# EAGLE library part EP1S10_STRATIX_BGA672 (library altera)
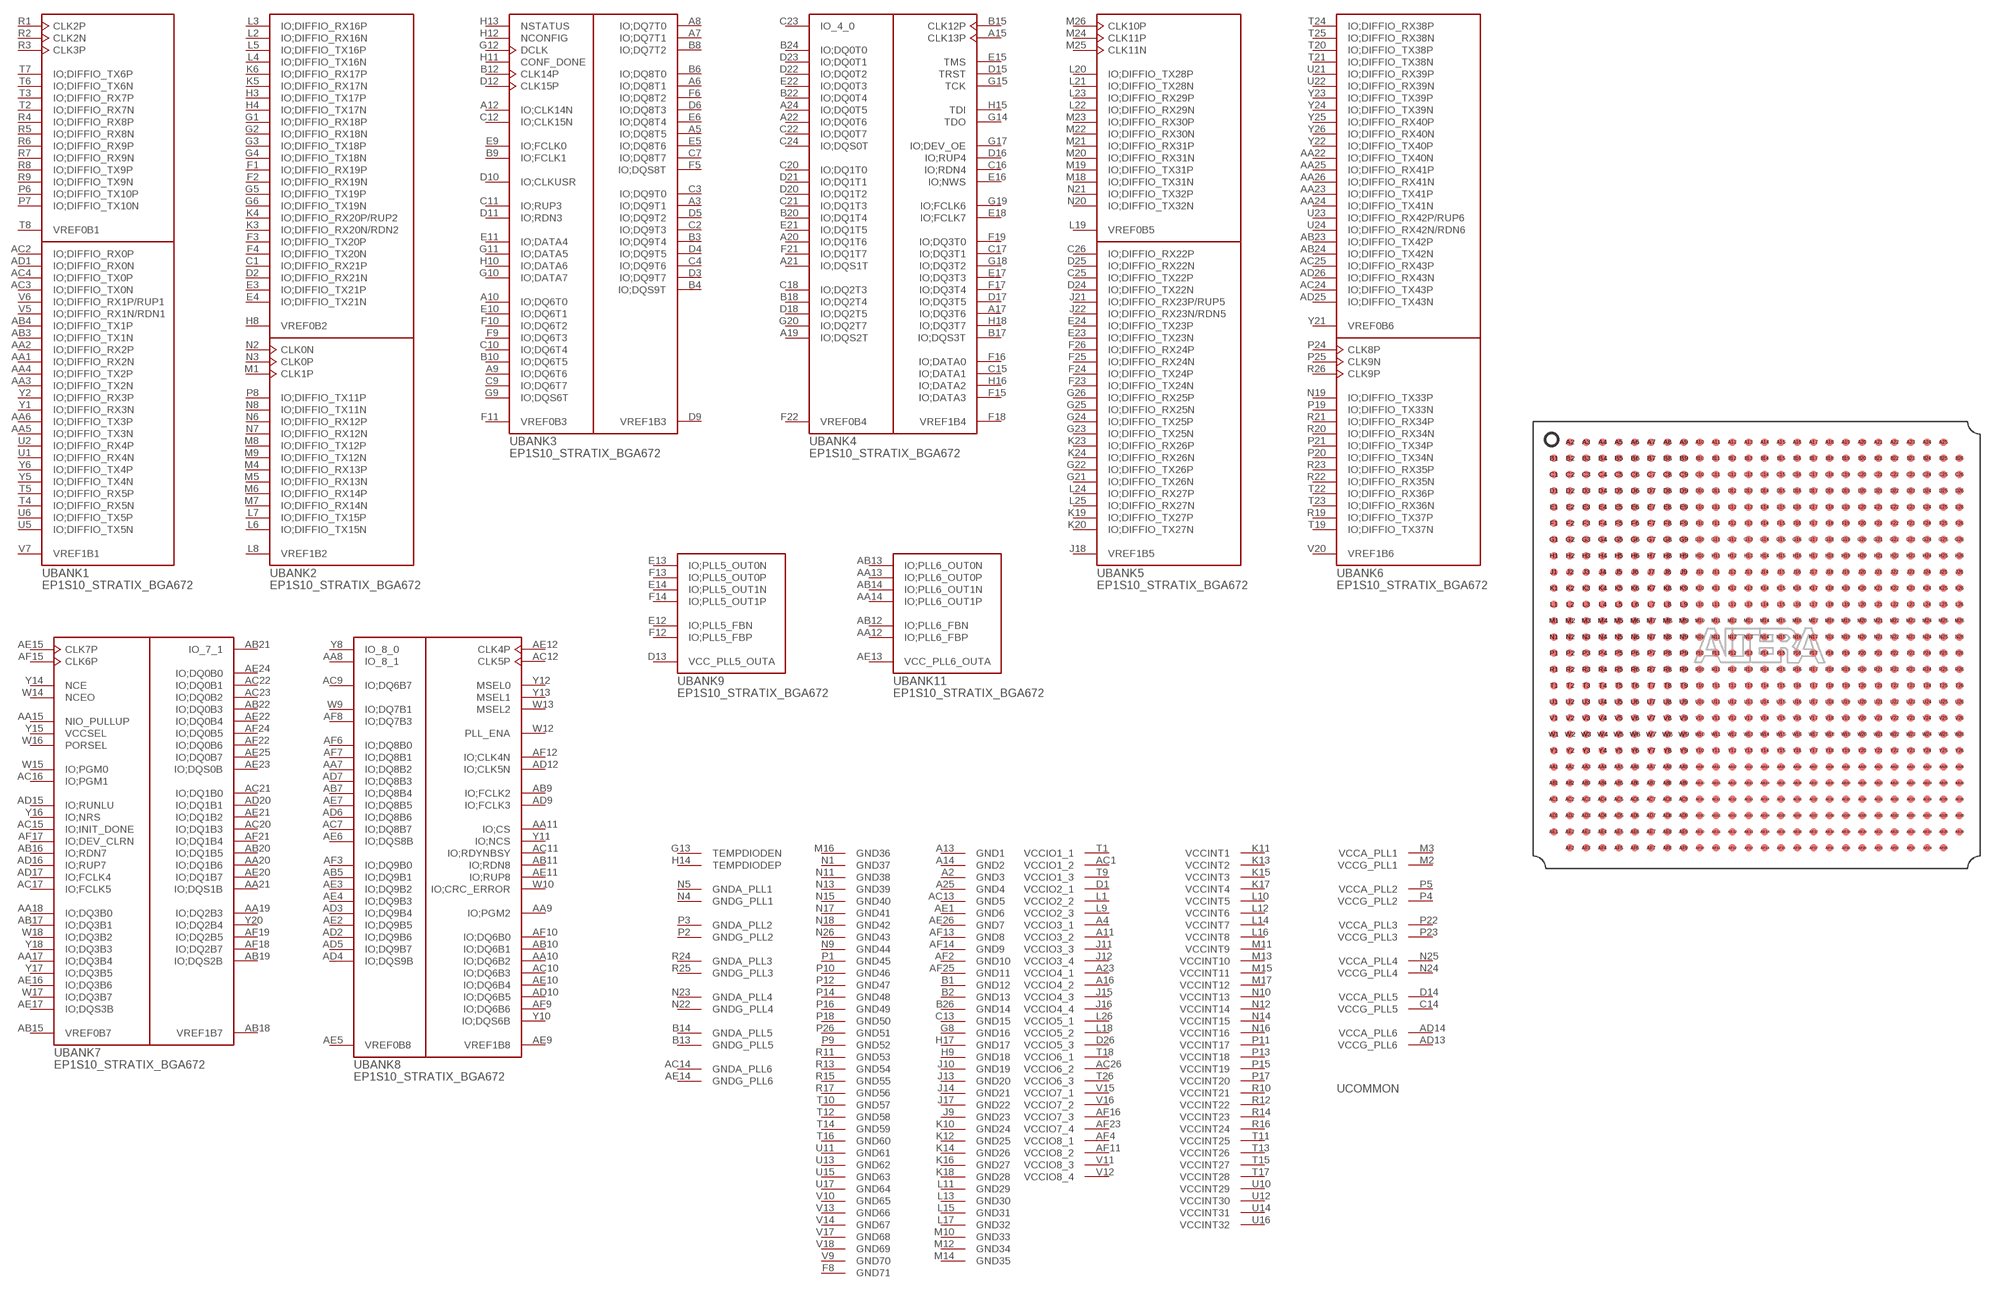
[diagram p64: symbol with the pads of BGA672; footprint BGA672]

Designator prefix -; gates COMMON=EP1S10_BGA672_0 BANK1=EP1S10_BGA672_1 BANK2=EP1S10_BGA672_2 BANK3=EP1S10_BGA672_3 BANK4=EP1S10_BGA672_4 BANK5=EP1S10_BGA672_5 BANK6=EP1S10_BGA672_6 BANK7=EP1S10_BGA672_7 BANK8=EP1S10_BGA672_8 BANK9=EP1S10_FBGA484_9 BANK11=EP1S10_FBGA484_11 NC=EP1S10_BGA672_NC

## EP1S10_STRATIX_BGA672  [BGA672]
A2  COMMON:GND3  pwr
A3  BANK3:IO;DQ9T1
A4  COMMON:VCCIO3_1  pwr
A5  BANK3:IO;DQ8T5
A6  BANK3:IO;DQ8T1
A7  BANK3:IO;DQ7T1
A8  BANK3:IO;DQ7T0
A9  BANK3:IO;DQ6T6
A10  BANK3:IO;DQ6T0
A11  COMMON:VCCIO3_2  pwr
A12  BANK3:IO;CLK14N
A13  COMMON:GND1  pwr
A14  COMMON:GND2  pwr
A15  BANK4:CLK13P  in
A16  COMMON:VCCIO4_2  pwr
A17  BANK4:IO;DQ3T6
A18  NC:P$1  nc
A19  BANK4:IO;DQS2T
A20  BANK4:IO;DQ1T6
A21  BANK4:IO;DQS1T
A22  BANK4:IO;DQ0T6
A23  COMMON:VCCIO4_1  pwr
A24  BANK4:IO;DQ0T5
A25  COMMON:GND4  pwr
AA1  BANK1:IO;DIFFIO_RX2N
AA2  BANK1:IO;DIFFIO_RX2P
AA3  BANK1:IO;DIFFIO_TX2N
AA4  BANK1:IO;DIFFIO_TX2P
AA5  BANK1:IO;DIFFIO_TX3N
AA6  BANK1:IO;DIFFIO_TX3P
AA7  BANK8:IO;DQ8B2
AA8  BANK8:IO_8_1
AA9  BANK8:IO;PGM2
AA10  BANK8:IO;DQ6B2
AA11  BANK8:IO;CS
AA12  BANK11:IO;PLL6_FBP
AA13  BANK11:IO;PLL6_OUT0P
AA14  BANK11:IO;PLL6_OUT1P
AA15  BANK7:NIO_PULLUP  in
AA16  NC:P$2  nc
AA17  BANK7:IO;DQ3B4
AA18  BANK7:IO;DQ3B0
AA19  BANK7:IO;DQ2B3
AA20  BANK7:IO;DQ1B6
AA21  BANK7:IO;DQS1B
AA22  BANK6:IO;DIFFIO_TX40N
AA23  BANK6:IO;DIFFIO_TX41P
AA24  BANK6:IO;DIFFIO_TX41N
AA25  BANK6:IO;DIFFIO_RX41P
AA26  BANK6:IO;DIFFIO_RX41N
AB1  NC:P$3  nc
AB2  NC:P$4  nc
AB3  BANK1:IO;DIFFIO_TX1N
AB4  BANK1:IO;DIFFIO_TX1P
AB5  BANK8:IO;DQ9B1
AB6  NC:P$7  nc
AB7  BANK8:IO;DQ8B4
AB8  NC:P$8  nc
AB9  BANK8:IO;FCLK2
AB10  BANK8:IO;DQ6B1
AB11  BANK8:IO;RDN8
AB12  BANK11:IO;PLL6_FBN
AB13  BANK11:IO;PLL6_OUT0N
AB14  BANK11:IO;PLL6_OUT1N
AB15  BANK7:VREF0B7  pwr
AB16  BANK7:IO;RDN7
AB17  BANK7:IO;DQ3B1
AB18  BANK7:VREF1B7  pwr
AB19  BANK7:IO;DQS2B
AB20  BANK7:IO;DQ1B5
AB21  BANK7:IO_7_1
AB22  BANK7:IO;DQ0B3
AB23  BANK6:IO;DIFFIO_TX42P
AB24  BANK6:IO;DIFFIO_TX42N
AB25  NC:P$5  nc
AB26  NC:P$6  nc
AC1  COMMON:VCCIO1_2  pwr
AC2  BANK1:IO;DIFFIO_RX0P
AC3  BANK1:IO;DIFFIO_TX0N
AC4  BANK1:IO;DIFFIO_TX0P
AC5  NC:P$11  nc
AC6  NC:P$12  nc
AC7  BANK8:IO;DQ8B7
AC8  NC:P$13  nc
AC9  BANK8:IO;DQ6B7
AC10  BANK8:IO;DQ6B3
AC11  BANK8:IO;RDYNBSY
AC12  BANK8:CLK5P  in
AC13  COMMON:GND5  pwr
AC14  COMMON:GNDA_PLL6  pwr
AC15  BANK7:IO;INIT_DONE
AC16  BANK7:IO;PGM1
AC17  BANK7:IO;FCLK5
AC18  NC:P$9  nc
AC19  NC:P$10  nc
AC20  BANK7:IO;DQ1B3
AC21  BANK7:IO;DQ1B0
AC22  BANK7:IO;DQ0B1
AC23  BANK7:IO;DQ0B2
AC24  BANK6:IO;DIFFIO_TX43P
AC25  BANK6:IO;DIFFIO_RX43P
AC26  COMMON:VCCIO6_2  pwr
AD1  BANK1:IO;DIFFIO_RX0N
AD2  BANK8:IO;DQ9B6
AD3  BANK8:IO;DQ9B4
AD4  BANK8:IO;DQS9B
AD5  BANK8:IO;DQ9B7
AD6  BANK8:IO;DQ8B6
AD7  BANK8:IO;DQ8B3
AD8  NC:P$21  nc
AD9  BANK8:IO;FCLK3
AD10  BANK8:IO;DQ6B5
AD11  NC:P$14  nc
AD12  BANK8:IO;CLK5N
AD13  COMMON:VCCG_PLL6  pwr
AD14  COMMON:VCCA_PLL6  pwr
AD15  BANK7:IO;RUNLU
AD16  BANK7:IO;RUP7
AD17  BANK7:IO;FCLK4
AD18  NC:P$15  nc
AD19  NC:P$16  nc
AD20  BANK7:IO;DQ1B1
AD21  NC:P$17  nc
AD22  NC:P$18  nc
AD23  NC:P$19  nc
AD24  NC:P$20  nc
AD25  BANK6:IO;DIFFIO_TX43N
AD26  BANK6:IO;DIFFIO_RX43N
AE1  COMMON:GND6  pwr
AE2  BANK8:IO;DQ9B5
AE3  BANK8:IO;DQ9B2
AE4  BANK8:IO;DQ9B3
AE5  BANK8:VREF0B8  pwr
AE6  BANK8:IO;DQS8B
AE7  BANK8:IO;DQ8B5
AE8  NC:P$24  nc
AE9  BANK8:VREF1B8  pwr
AE10  BANK8:IO;DQ6B4
AE11  BANK8:IO;RUP8
AE12  BANK8:CLK4P  in
AE13  BANK11:VCC_PLL6_OUTA  pwr
AE14  COMMON:GNDG_PLL6  pwr
AE15  BANK7:CLK7P  in
AE16  BANK7:IO;DQ3B6
AE17  BANK7:IO;DQS3B
AE18  NC:P$22  nc
AE19  NC:P$23  nc
AE20  BANK7:IO;DQ1B7
AE21  BANK7:IO;DQ1B2
AE22  BANK7:IO;DQ0B4
AE23  BANK7:IO;DQS0B
AE24  BANK7:IO;DQ0B0
AE25  BANK7:IO;DQ0B7
AE26  COMMON:GND7  pwr
AF2  COMMON:GND10  pwr
AF3  BANK8:IO;DQ9B0
AF4  COMMON:VCCIO8_1  pwr
AF5  NC:P$26  nc
AF6  BANK8:IO;DQ8B0
AF7  BANK8:IO;DQ8B1
AF8  BANK8:IO;DQ7B3
AF9  BANK8:IO;DQ6B6
AF10  BANK8:IO;DQ6B0
AF11  COMMON:VCCIO8_2  pwr
AF12  BANK8:IO;CLK4N
AF13  COMMON:GND8  pwr
AF14  COMMON:GND9  pwr
AF15  BANK7:CLK6P  in
AF16  COMMON:VCCIO7_3  pwr
AF17  BANK7:IO;DEV_CLRN
AF18  BANK7:IO;DQ2B7
AF19  BANK7:IO;DQ2B5
AF20  NC:P$25  nc
AF21  BANK7:IO;DQ1B4
AF22  BANK7:IO;DQ0B6
AF23  COMMON:VCCIO7_4  pwr
AF24  BANK7:IO;DQ0B5
AF25  COMMON:GND11  pwr
B1  COMMON:GND12  pwr
B2  COMMON:GND13  pwr
B3  BANK3:IO;DQ9T4
B4  BANK3:IO;DQS9T
B5  NC:P$33  nc
B6  BANK3:IO;DQ8T0
B7  NC:P$34  nc
B8  BANK3:IO;DQ7T2
B9  BANK3:IO;FCLK1
B10  BANK3:IO;DQ6T5
B11  NC:P$27  nc
B12  BANK3:CLK14P  in
B13  COMMON:GNDG_PLL5  pwr
B14  COMMON:GNDA_PLL5  pwr
B15  BANK4:CLK12P  in
B16  NC:P$28  nc
B17  BANK4:IO;DQS3T
B18  BANK4:IO;DQ2T4
B19  NC:P$29  nc
B20  BANK4:IO;DQ1T4
B21  NC:P$30  nc
B22  BANK4:IO;DQ0T4
B23  NC:P$31  nc
B24  BANK4:IO;DQ0T0
B25  NC:P$32  nc
B26  COMMON:GND14  pwr
C1  BANK2:IO;DIFFIO_RX21P
C2  BANK3:IO;DQ9T3
C3  BANK3:IO;DQ9T0
C4  BANK3:IO;DQ9T6
C5  NC:P$36  nc
C6  NC:P$37  nc
C7  BANK3:IO;DQ8T7
C8  NC:P$38  nc
C9  BANK3:IO;DQ6T7
C10  BANK3:IO;DQ6T4
C11  BANK3:IO;RUP3
C12  BANK3:IO;CLK15N
C13  COMMON:GND15  pwr
C14  COMMON:VCCG_PLL5  pwr
C15  BANK4:IO;DATA1
C16  BANK4:IO;RDN4
C17  BANK4:IO;DQ3T1
C18  BANK4:IO;DQ2T3
C19  NC:P$35  nc
C20  BANK4:IO;DQ1T0
C21  BANK4:IO;DQ1T3
C22  BANK4:IO;DQ0T7
C23  BANK4:IO_4_0
C24  BANK4:IO;DQS0T
C25  BANK5:IO;DIFFIO_TX22P
C26  BANK5:IO;DIFFIO_RX22P
D1  COMMON:VCCIO2_1  pwr
D2  BANK2:IO;DIFFIO_RX21N
D3  BANK3:IO;DQ9T7
D4  BANK3:IO;DQ9T5
D5  BANK3:IO;DQ9T2
D6  BANK3:IO;DQ8T3
D7  NC:P$40  nc
D8  NC:P$41  nc
D9  BANK3:VREF1B3  pwr
D10  BANK3:IO;CLKUSR
D11  BANK3:IO;RDN3
D12  BANK3:CLK15P  in
D13  BANK9:VCC_PLL5_OUTA  pwr
D14  COMMON:VCCA_PLL5  pwr
D15  BANK4:TRST  in
D16  BANK4:IO;RUP4
D17  BANK4:IO;DQ3T5
D18  BANK4:IO;DQ2T5
D19  NC:P$39  nc
D20  BANK4:IO;DQ1T2
D21  BANK4:IO;DQ1T1
D22  BANK4:IO;DQ0T2
D23  BANK4:IO;DQ0T1
D24  BANK5:IO;DIFFIO_TX22N
D25  BANK5:IO;DIFFIO_RX22N
D26  COMMON:VCCIO5_3  pwr
E1  NC:P$42  nc
E2  NC:P$44  nc
E3  BANK2:IO;DIFFIO_TX21P
E4  BANK2:IO;DIFFIO_TX21N
E5  BANK3:IO;DQ8T6
E6  BANK3:IO;DQ8T4
E7  NC:P$48  nc
E8  NC:P$49  nc
E9  BANK3:IO;FCLK0
E10  BANK3:IO;DQ6T1
E11  BANK3:IO;DATA4
E12  BANK9:IO;PLL5_FBN
E13  BANK9:IO;PLL5_OUT0N
E14  BANK9:IO;PLL5_OUT1N
E15  BANK4:TMS  in
E16  BANK4:IO;NWS
E17  BANK4:IO;DQ3T3
E18  BANK4:IO;FCLK7
E19  NC:P$43  nc
E20  NC:P$45  nc
E21  BANK4:IO;DQ1T5
E22  BANK4:IO;DQ0T3
E23  BANK5:IO;DIFFIO_TX23N
E24  BANK5:IO;DIFFIO_TX23P
E25  NC:P$46  nc
E26  NC:P$47  nc
F1  BANK2:IO;DIFFIO_RX19P
F2  BANK2:IO;DIFFIO_RX19N
F3  BANK2:IO;DIFFIO_TX20P
F4  BANK2:IO;DIFFIO_TX20N
F5  BANK3:IO;DQS8T
F6  BANK3:IO;DQ8T2
F7  NC:P$51  nc
F8  COMMON:GND71  pwr
F9  BANK3:IO;DQ6T3
F10  BANK3:IO;DQ6T2
F11  BANK3:VREF0B3  pwr
F12  BANK9:IO;PLL5_FBP
F13  BANK9:IO;PLL5_OUT0P
F14  BANK9:IO;PLL5_OUT1P
F15  BANK4:IO;DATA3
F16  BANK4:IO;DATA0
F17  BANK4:IO;DQ3T4
F18  BANK4:VREF1B4  pwr
F19  BANK4:IO;DQ3T0
F20  NC:P$50  nc
F21  BANK4:IO;DQ1T7
F22  BANK4:VREF0B4  pwr
F23  BANK5:IO;DIFFIO_TX24N
F24  BANK5:IO;DIFFIO_TX24P
F25  BANK5:IO;DIFFIO_RX24N
F26  BANK5:IO;DIFFIO_RX24P
G1  BANK2:IO;DIFFIO_RX18P
G2  BANK2:IO;DIFFIO_RX18N
G3  BANK2:IO;DIFFIO_TX18P
G4  BANK2:IO;DIFFIO_TX18N
G5  BANK2:IO;DIFFIO_TX19P
G6  BANK2:IO;DIFFIO_TX19N
G7  NC:P$53  nc
G8  COMMON:GND16  pwr
G9  BANK3:IO;DQS6T
G10  BANK3:IO;DATA7
G11  BANK3:IO;DATA5
G12  BANK3:DCLK  in
G13  COMMON:TEMPDIODEN  in
G14  BANK4:TDO  out
G15  BANK4:TCK  in
G16  NC:P$52  nc
G17  BANK4:IO;DEV_OE
G18  BANK4:IO;DQ3T2
G19  BANK4:IO;FCLK6
G20  BANK4:IO;DQ2T7
G21  BANK5:IO;DIFFIO_TX26N
G22  BANK5:IO;DIFFIO_TX26P
G23  BANK5:IO;DIFFIO_TX25N
G24  BANK5:IO;DIFFIO_TX25P
G25  BANK5:IO;DIFFIO_RX25N
G26  BANK5:IO;DIFFIO_RX25P
H1  NC:P$54  nc
H2  NC:P$56  nc
H3  BANK2:IO;DIFFIO_TX17P
H4  BANK2:IO;DIFFIO_TX17N
H5  NC:P$64  nc
H6  NC:P$65  nc
H7  NC:P$66  nc
H8  BANK2:VREF0B2  pwr
H9  COMMON:GND18  pwr
H10  BANK3:IO;DATA6
H11  BANK3:CONF_DONE  oc
H12  BANK3:NCONFIG  in
H13  BANK3:NSTATUS  oc
H14  COMMON:TEMPDIODEP  in
H15  BANK4:TDI  in
H16  BANK4:IO;DATA2
H17  COMMON:GND17  pwr
H18  BANK4:IO;DQ3T7
H19  NC:P$55  nc
H20  NC:P$57  nc
H21  NC:P$58  nc
H22  NC:P$59  nc
H23  NC:P$60  nc
H24  NC:P$61  nc
H25  NC:P$62  nc
H26  NC:P$63  nc
J1  NC:P$67  nc
J2  NC:P$69  nc
J3  NC:P$75  nc
J4  NC:P$76  nc
J5  NC:P$77  nc
J6  NC:P$78  nc
J7  NC:P$79  nc
J8  NC:P$80  nc
J9  COMMON:GND23  pwr
J10  COMMON:GND19  pwr
J11  COMMON:VCCIO3_3  pwr
J12  COMMON:VCCIO3_4  pwr
J13  COMMON:GND20  pwr
J14  COMMON:GND21  pwr
J15  COMMON:VCCIO4_3  pwr
J16  COMMON:VCCIO4_4  pwr
J17  COMMON:GND22  pwr
J18  BANK5:VREF1B5  pwr
J19  NC:P$68  nc
J20  NC:P$70  nc
J21  BANK5:IO;DIFFIO_RX23P/RUP5
J22  BANK5:IO;DIFFIO_RX23N/RDN5
J23  NC:P$71  nc
J24  NC:P$72  nc
J25  NC:P$73  nc
J26  NC:P$74  nc
K1  NC:P$81  nc
K2  NC:P$82  nc
K3  BANK2:IO;DIFFIO_RX20N/RDN2
K4  BANK2:IO;DIFFIO_RX20P/RUP2
K5  BANK2:IO;DIFFIO_RX17N
K6  BANK2:IO;DIFFIO_RX17P
K7  NC:P$87  nc
K8  NC:P$88  nc
K9  NC:P$89  nc
K10  COMMON:GND24  pwr
K11  COMMON:VCCINT1  pwr
K12  COMMON:GND25  pwr
K13  COMMON:VCCINT2  pwr
K14  COMMON:GND26  pwr
K15  COMMON:VCCINT3  pwr
K16  COMMON:GND27  pwr
K17  COMMON:VCCINT4  pwr
K18  COMMON:GND28  pwr
K19  BANK5:IO;DIFFIO_TX27P
K20  BANK5:IO;DIFFIO_TX27N
K21  NC:P$83  nc
K22  NC:P$84  nc
K23  BANK5:IO;DIFFIO_RX26P
K24  BANK5:IO;DIFFIO_RX26N
K25  NC:P$85  nc
K26  NC:P$86  nc
L1  COMMON:VCCIO2_2  pwr
L2  BANK2:IO;DIFFIO_RX16N
L3  BANK2:IO;DIFFIO_RX16P
L4  BANK2:IO;DIFFIO_TX16N
L5  BANK2:IO;DIFFIO_TX16P
L6  BANK2:IO;DIFFIO_TX15N
L7  BANK2:IO;DIFFIO_TX15P
L8  BANK2:VREF1B2  pwr
L9  COMMON:VCCIO2_3  pwr
L10  COMMON:VCCINT5  pwr
L11  COMMON:GND29  pwr
L12  COMMON:VCCINT6  pwr
L13  COMMON:GND30  pwr
L14  COMMON:VCCINT7  pwr
L15  COMMON:GND31  pwr
L16  COMMON:VCCINT8  pwr
L17  COMMON:GND32  pwr
L18  COMMON:VCCIO5_2  pwr
L19  BANK5:VREF0B5  pwr
L20  BANK5:IO;DIFFIO_TX28P
L21  BANK5:IO;DIFFIO_TX28N
L22  BANK5:IO;DIFFIO_RX29N
L23  BANK5:IO;DIFFIO_RX29P
L24  BANK5:IO;DIFFIO_RX27P
L25  BANK5:IO;DIFFIO_RX27N
L26  COMMON:VCCIO5_1  pwr
M1  BANK2:CLK1P  in
M2  COMMON:VCCG_PLL1  pwr
M3  COMMON:VCCA_PLL1  pwr
M4  BANK2:IO;DIFFIO_RX13P
M5  BANK2:IO;DIFFIO_RX13N
M6  BANK2:IO;DIFFIO_RX14P
M7  BANK2:IO;DIFFIO_RX14N
M8  BANK2:IO;DIFFIO_TX12P
M9  BANK2:IO;DIFFIO_TX12N
M10  COMMON:GND33  pwr
M11  COMMON:VCCINT9  pwr
M12  COMMON:GND34  pwr
M13  COMMON:VCCINT10  pwr
M14  COMMON:GND35  pwr
M15  COMMON:VCCINT11  pwr
M16  COMMON:GND36  pwr
M17  COMMON:VCCINT12  pwr
M18  BANK5:IO;DIFFIO_TX31N
M19  BANK5:IO;DIFFIO_TX31P
M20  BANK5:IO;DIFFIO_RX31N
M21  BANK5:IO;DIFFIO_RX31P
M22  BANK5:IO;DIFFIO_RX30N
M23  BANK5:IO;DIFFIO_RX30P
M24  BANK5:CLK11P  in
M25  BANK5:CLK11N
M26  BANK5:CLK10P  in
N1  COMMON:GND37  pwr
N2  BANK2:CLK0N
N3  BANK2:CLK0P  in
N4  COMMON:GNDG_PLL1  pwr
N5  COMMON:GNDA_PLL1  pwr
N6  BANK2:IO;DIFFIO_RX12P
N7  BANK2:IO;DIFFIO_RX12N
N8  BANK2:IO;DIFFIO_TX11N
N9  COMMON:GND44  pwr
N10  COMMON:VCCINT13  pwr
N11  COMMON:GND38  pwr
N12  COMMON:VCCINT14  pwr
N13  COMMON:GND39  pwr
N14  COMMON:VCCINT15  pwr
N15  COMMON:GND40  pwr
N16  COMMON:VCCINT16  pwr
N17  COMMON:GND41  pwr
N18  COMMON:GND42  pwr
N19  BANK6:IO;DIFFIO_TX33P
N20  BANK5:IO;DIFFIO_TX32N
N21  BANK5:IO;DIFFIO_TX32P
N22  COMMON:GNDG_PLL4  pwr
N23  COMMON:GNDA_PLL4  pwr
N24  COMMON:VCCG_PLL4  pwr
N25  COMMON:VCCA_PLL4  pwr
N26  COMMON:GND43  pwr
P1  COMMON:GND45  pwr
P2  COMMON:GNDG_PLL2  pwr
P3  COMMON:GNDA_PLL2  pwr
P4  COMMON:VCCG_PLL2  pwr
P5  COMMON:VCCA_PLL2  pwr
P6  BANK1:IO;DIFFIO_TX10P
P7  BANK1:IO;DIFFIO_TX10N
P8  BANK2:IO;DIFFIO_TX11P
P9  COMMON:GND52  pwr
P10  COMMON:GND46  pwr
P11  COMMON:VCCINT17  pwr
P12  COMMON:GND47  pwr
P13  COMMON:VCCINT18  pwr
P14  COMMON:GND48  pwr
P15  COMMON:VCCINT19  pwr
P16  COMMON:GND49  pwr
P17  COMMON:VCCINT20  pwr
P18  COMMON:GND50  pwr
P19  BANK6:IO;DIFFIO_TX33N
P20  BANK6:IO;DIFFIO_TX34N
P21  BANK6:IO;DIFFIO_TX34P
P22  COMMON:VCCA_PLL3  pwr
P23  COMMON:VCCG_PLL3  pwr
P24  BANK6:CLK8P  in
P25  BANK6:CLK9N
P26  COMMON:GND51  pwr
R1  BANK1:CLK2P  in
R2  BANK1:CLK2N  in
R3  BANK1:CLK3P  in
R4  BANK1:IO;DIFFIO_RX8P
R5  BANK1:IO;DIFFIO_RX8N
R6  BANK1:IO;DIFFIO_RX9P
R7  BANK1:IO;DIFFIO_RX9N
R8  BANK1:IO;DIFFIO_TX9P
R9  BANK1:IO;DIFFIO_TX9N
R10  COMMON:VCCINT21  pwr
R11  COMMON:GND53  pwr
R12  COMMON:VCCINT22  pwr
R13  COMMON:GND54  pwr
R14  COMMON:VCCINT23  pwr
R15  COMMON:GND55  pwr
R16  COMMON:VCCINT24  pwr
R17  COMMON:GND56  pwr
R18  NC:P$90  nc
R19  BANK6:IO;DIFFIO_TX37P
R20  BANK6:IO;DIFFIO_RX34N
R21  BANK6:IO;DIFFIO_RX34P
R22  BANK6:IO;DIFFIO_RX35N
R23  BANK6:IO;DIFFIO_RX35P
R24  COMMON:GNDA_PLL3  pwr
R25  COMMON:GNDG_PLL3  pwr
R26  BANK6:CLK9P  in
T1  COMMON:VCCIO1_1  pwr
T2  BANK1:IO;DIFFIO_RX7N
T3  BANK1:IO;DIFFIO_RX7P
T4  BANK1:IO;DIFFIO_RX5N
T5  BANK1:IO;DIFFIO_RX5P
T6  BANK1:IO;DIFFIO_TX6N
T7  BANK1:IO;DIFFIO_TX6P
T8  BANK1:VREF0B1  pwr
T9  COMMON:VCCIO1_3  pwr
T10  COMMON:GND57  pwr
T11  COMMON:VCCINT25  pwr
T12  COMMON:GND58  pwr
T13  COMMON:VCCINT26  pwr
T14  COMMON:GND59  pwr
T15  COMMON:VCCINT27  pwr
T16  COMMON:GND60  pwr
T17  COMMON:VCCINT28  pwr
T18  COMMON:VCCIO6_1  pwr
T19  BANK6:IO;DIFFIO_TX37N
T20  BANK6:IO;DIFFIO_TX38P
T21  BANK6:IO;DIFFIO_TX38N
T22  BANK6:IO;DIFFIO_RX36P
T23  BANK6:IO;DIFFIO_RX36N
T24  BANK6:IO;DIFFIO_RX38P
T25  BANK6:IO;DIFFIO_RX38N
T26  COMMON:VCCIO6_3  pwr
U1  BANK1:IO;DIFFIO_RX4N
U2  BANK1:IO;DIFFIO_RX4P
U3  NC:P$96  nc
U4  NC:P$97  nc
U5  BANK1:IO;DIFFIO_TX5N
U6  BANK1:IO;DIFFIO_TX5P
U7  NC:P$98  nc
U8  NC:P$99  nc
U9  NC:P$100  nc
U10  COMMON:VCCINT29  pwr
U11  COMMON:GND61  pwr
U12  COMMON:VCCINT30  pwr
U13  COMMON:GND62  pwr
U14  COMMON:VCCINT31  pwr
U15  COMMON:GND63  pwr
U16  COMMON:VCCINT32  pwr
U17  COMMON:GND64  pwr
U18  NC:P$91  nc
U19  NC:P$92  nc
U20  NC:P$93  nc
U21  BANK6:IO;DIFFIO_RX39P
U22  BANK6:IO;DIFFIO_RX39N
U23  BANK6:IO;DIFFIO_RX42P/RUP6
U24  BANK6:IO;DIFFIO_RX42N/RDN6
U25  NC:P$94  nc
U26  NC:P$95  nc
V1  NC:P$101  nc
V2  NC:P$103  nc
V3  NC:P$110  nc
V4  NC:P$111  nc
V5  BANK1:IO;DIFFIO_RX1N/RDN1
V6  BANK1:IO;DIFFIO_RX1P/RUP1
V7  BANK1:VREF1B1  pwr
V8  NC:P$112  nc
V9  COMMON:GND70  pwr
V10  COMMON:GND65  pwr
V11  COMMON:VCCIO8_3  pwr
V12  COMMON:VCCIO8_4  pwr
V13  COMMON:GND66  pwr
V14  COMMON:GND67  pwr
V15  COMMON:VCCIO7_1  pwr
V16  COMMON:VCCIO7_2  pwr
V17  COMMON:GND68  pwr
V18  COMMON:GND69  pwr
V19  NC:P$102  nc
V20  BANK6:VREF1B6  pwr
V21  NC:P$104  nc
V22  NC:P$105  nc
V23  NC:P$106  nc
V24  NC:P$107  nc
V25  NC:P$108  nc
V26  NC:P$109  nc
W1  NC:P$113  nc
W2  NC:P$116  nc
W3  NC:P$124  nc
W4  NC:P$125  nc
W5  NC:P$126  nc
W6  NC:P$127  nc
W7  NC:P$128  nc
W8  NC:P$129  nc
W9  BANK8:IO;DQ7B1
W10  BANK8:IO;CRC_ERROR
W11  NC:P$114  nc
W12  BANK8:PLL_ENA  in
W13  BANK8:MSEL2  in
W14  BANK7:NCEO  out
W15  BANK7:IO;PGM0
W16  BANK7:PORSEL  in
W17  BANK7:IO;DQ3B7
W18  BANK7:IO;DQ3B2
W19  NC:P$115  nc
W20  NC:P$117  nc
W21  NC:P$118  nc
W22  NC:P$119  nc
W23  NC:P$120  nc
W24  NC:P$121  nc
W25  NC:P$122  nc
W26  NC:P$123  nc
Y1  BANK1:IO;DIFFIO_RX3N
Y2  BANK1:IO;DIFFIO_RX3P
Y3  NC:P$131  nc
Y4  NC:P$132  nc
Y5  BANK1:IO;DIFFIO_TX4N
Y6  BANK1:IO;DIFFIO_TX4P
Y7  NC:P$133  nc
Y8  BANK8:IO_8_0
Y9  NC:P$134  nc
Y10  BANK8:IO;DQS6B
Y11  BANK8:IO;NCS
Y12  BANK8:MSEL0  in
Y13  BANK8:MSEL1  in
Y14  BANK7:NCE  in
Y15  BANK7:VCCSEL  in
Y16  BANK7:IO;NRS
Y17  BANK7:IO;DQ3B5
Y18  BANK7:IO;DQ3B3
Y19  NC:P$130  nc
Y20  BANK7:IO;DQ2B4
Y21  BANK6:VREF0B6  pwr
Y22  BANK6:IO;DIFFIO_TX40P
Y23  BANK6:IO;DIFFIO_TX39P
Y24  BANK6:IO;DIFFIO_TX39N
Y25  BANK6:IO;DIFFIO_RX40P
Y26  BANK6:IO;DIFFIO_RX40N

## Footprint BGA672 (pad centres in mm)
smd 0.584 x 0.584: A2 -14.605,15.875; A3 -13.335,15.875; A4 -12.065,15.875; A5 -10.795,15.875; A6 -9.525,15.875; A7 -8.255,15.875; A8 -6.985,15.875; A9 -5.715,15.875; A10 -4.445,15.875; A11 -3.175,15.875; A12 -1.905,15.875; A13 -0.635,15.875; A14 0.635,15.875; A15 1.905,15.875; A16 3.175,15.875; A17 4.445,15.875; A18 5.715,15.875; A19 6.985,15.875; A20 8.255,15.875; A21 9.525,15.875; A22 10.795,15.875; A23 12.065,15.875; A24 13.335,15.875; A25 14.605,15.875; AA1 -15.875,-9.525; AA2 -14.605,-9.525; AA3 -13.335,-9.525; AA4 -12.065,-9.525; AA5 -10.795,-9.525; AA6 -9.525,-9.525; AA7 -8.255,-9.525; AA8 -6.985,-9.525; AA9 -5.715,-9.525; AA10 -4.445,-9.525; AA11 -3.175,-9.525; AA12 -1.905,-9.525; AA13 -0.635,-9.525; AA14 0.635,-9.525; AA15 1.905,-9.525; AA16 3.175,-9.525; AA17 4.445,-9.525; AA18 5.715,-9.525; AA19 6.985,-9.525; AA20 8.255,-9.525; AA21 9.525,-9.525; AA22 10.795,-9.525; AA23 12.065,-9.525; AA24 13.335,-9.525; AA25 14.605,-9.525; AA26 15.875,-9.525; AB1 -15.875,-10.795; AB2 -14.605,-10.795; AB3 -13.335,-10.795; AB4 -12.065,-10.795; AB5 -10.795,-10.795; AB6 -9.525,-10.795; AB7 -8.255,-10.795; AB8 -6.985,-10.795; AB9 -5.715,-10.795; AB10 -4.445,-10.795; AB11 -3.175,-10.795; AB12 -1.905,-10.795; AB13 -0.635,-10.795; AB14 0.635,-10.795; AB15 1.905,-10.795; AB16 3.175,-10.795; AB17 4.445,-10.795; AB18 5.715,-10.795; AB19 6.985,-10.795; AB20 8.255,-10.795; AB21 9.525,-10.795; AB22 10.795,-10.795; AB23 12.065,-10.795; AB24 13.335,-10.795; AB25 14.605,-10.795; AB26 15.875,-10.795; AC1 -15.875,-12.065; AC2 -14.605,-12.065; AC3 -13.335,-12.065; AC4 -12.065,-12.065; AC5 -10.795,-12.065; AC6 -9.525,-12.065; AC7 -8.255,-12.065; AC8 -6.985,-12.065; AC9 -5.715,-12.065; AC10 -4.445,-12.065; AC11 -3.175,-12.065; AC12 -1.905,-12.065; AC13 -0.635,-12.065; AC14 0.635,-12.065; AC15 1.905,-12.065; AC16 3.175,-12.065; AC17 4.445,-12.065; AC18 5.715,-12.065; AC19 6.985,-12.065; AC20 8.255,-12.065; AC21 9.525,-12.065; AC22 10.795,-12.065; AC23 12.065,-12.065; AC24 13.335,-12.065; AC25 14.605,-12.065; AC26 15.875,-12.065; AD1 -15.875,-13.335; AD2 -14.605,-13.335; AD3 -13.335,-13.335; AD4 -12.065,-13.335; AD5 -10.795,-13.335; AD6 -9.525,-13.335; AD7 -8.255,-13.335; AD8 -6.985,-13.335; AD9 -5.715,-13.335; AD10 -4.445,-13.335; AD11 -3.175,-13.335; AD12 -1.905,-13.335; AD13 -0.635,-13.335; AD14 0.635,-13.335; AD15 1.905,-13.335; AD16 3.175,-13.335; AD17 4.445,-13.335; AD18 5.715,-13.335; AD19 6.985,-13.335; AD20 8.255,-13.335; AD21 9.525,-13.335; AD22 10.795,-13.335; AD23 12.065,-13.335; AD24 13.335,-13.335; AD25 14.605,-13.335; AD26 15.875,-13.335; AE1 -15.875,-14.605; AE2 -14.605,-14.605; AE3 -13.335,-14.605; AE4 -12.065,-14.605; AE5 -10.795,-14.605; AE6 -9.525,-14.605; AE7 -8.255,-14.605; AE8 -6.985,-14.605; AE9 -5.715,-14.605; AE10 -4.445,-14.605; AE11 -3.175,-14.605; AE12 -1.905,-14.605; AE13 -0.635,-14.605; AE14 0.635,-14.605; AE15 1.905,-14.605; AE16 3.175,-14.605; AE17 4.445,-14.605; AE18 5.715,-14.605; AE19 6.985,-14.605; AE20 8.255,-14.605; AE21 9.525,-14.605; AE22 10.795,-14.605; AE23 12.065,-14.605; AE24 13.335,-14.605; AE25 14.605,-14.605; AE26 15.875,-14.605; AF2 -14.605,-15.875; AF3 -13.335,-15.875; AF4 -12.065,-15.875; AF5 -10.795,-15.875; AF6 -9.525,-15.875; AF7 -8.255,-15.875; AF8 -6.985,-15.875; AF9 -5.715,-15.875; AF10 -4.445,-15.875; AF11 -3.175,-15.875; AF12 -1.905,-15.875; AF13 -0.635,-15.875; AF14 0.635,-15.875; AF15 1.905,-15.875; AF16 3.175,-15.875; AF17 4.445,-15.875; AF18 5.715,-15.875; AF19 6.985,-15.875; AF20 8.255,-15.875; AF21 9.525,-15.875; AF22 10.795,-15.875; AF23 12.065,-15.875; AF24 13.335,-15.875; AF25 14.605,-15.875; B1 -15.875,14.605; B2 -14.605,14.605; B3 -13.335,14.605; B4 -12.065,14.605; B5 -10.795,14.605; B6 -9.525,14.605; B7 -8.255,14.605; B8 -6.985,14.605; B9 -5.715,14.605; B10 -4.445,14.605; B11 -3.175,14.605; B12 -1.905,14.605; B13 -0.635,14.605; B14 0.635,14.605; B15 1.905,14.605; B16 3.175,14.605; B17 4.445,14.605; B18 5.715,14.605; B19 6.985,14.605; B20 8.255,14.605; B21 9.525,14.605; B22 10.795,14.605; B23 12.065,14.605; B24 13.335,14.605; B25 14.605,14.605; B26 15.875,14.605; C1 -15.875,13.335; C2 -14.605,13.335; C3 -13.335,13.335; C4 -12.065,13.335; C5 -10.795,13.335; C6 -9.525,13.335; C7 -8.255,13.335; C8 -6.985,13.335; C9 -5.715,13.335; C10 -4.445,13.335; C11 -3.175,13.335; C12 -1.905,13.335; C13 -0.635,13.335; C14 0.635,13.335; C15 1.905,13.335; C16 3.175,13.335; C17 4.445,13.335; C18 5.715,13.335; C19 6.985,13.335; C20 8.255,13.335; C21 9.525,13.335; C22 10.795,13.335; C23 12.065,13.335; C24 13.335,13.335; C25 14.605,13.335; C26 15.875,13.335; D1 -15.875,12.065; D2 -14.605,12.065; D3 -13.335,12.065; D4 -12.065,12.065; D5 -10.795,12.065; D6 -9.525,12.065; D7 -8.255,12.065; D8 -6.985,12.065; D9 -5.715,12.065; D10 -4.445,12.065; D11 -3.175,12.065; D12 -1.905,12.065; D13 -0.635,12.065; D14 0.635,12.065; D15 1.905,12.065; D16 3.175,12.065; D17 4.445,12.065; D18 5.715,12.065; D19 6.985,12.065; D20 8.255,12.065; D21 9.525,12.065; D22 10.795,12.065; D23 12.065,12.065; D24 13.335,12.065; D25 14.605,12.065; D26 15.875,12.065; E1 -15.875,10.795; E2 -14.605,10.795; E3 -13.335,10.795; E4 -12.065,10.795; E5 -10.795,10.795; E6 -9.525,10.795; E7 -8.255,10.795; E8 -6.985,10.795; E9 -5.715,10.795; E10 -4.445,10.795; E11 -3.175,10.795; E12 -1.905,10.795; E13 -0.635,10.795; E14 0.635,10.795; E15 1.905,10.795; E16 3.175,10.795; E17 4.445,10.795; E18 5.715,10.795; E19 6.985,10.795; E20 8.255,10.795; E21 9.525,10.795; E22 10.795,10.795; E23 12.065,10.795; E24 13.335,10.795; E25 14.605,10.795; E26 15.875,10.795; F1 -15.875,9.525; F2 -14.605,9.525; F3 -13.335,9.525; F4 -12.065,9.525; F5 -10.795,9.525; F6 -9.525,9.525; F7 -8.255,9.525; F8 -6.985,9.525; F9 -5.715,9.525; F10 -4.445,9.525; F11 -3.175,9.525; F12 -1.905,9.525; F13 -0.635,9.525; F14 0.635,9.525; F15 1.905,9.525; F16 3.175,9.525; F17 4.445,9.525; F18 5.715,9.525; F19 6.985,9.525; F20 8.255,9.525; F21 9.525,9.525; F22 10.795,9.525; F23 12.065,9.525; F24 13.335,9.525; F25 14.605,9.525; F26 15.875,9.525; G1 -15.875,8.255; G2 -14.605,8.255; G3 -13.335,8.255; G4 -12.065,8.255; G5 -10.795,8.255; G6 -9.525,8.255; G7 -8.255,8.255; G8 -6.985,8.255; G9 -5.715,8.255; G10 -4.445,8.255; G11 -3.175,8.255; G12 -1.905,8.255; G13 -0.635,8.255; G14 0.635,8.255; G15 1.905,8.255; G16 3.175,8.255; G17 4.445,8.255; G18 5.715,8.255; G19 6.985,8.255; G20 8.255,8.255; G21 9.525,8.255; G22 10.795,8.255; G23 12.065,8.255; G24 13.335,8.255; G25 14.605,8.255; G26 15.875,8.255; H1 -15.875,6.985; H2 -14.605,6.985; H3 -13.335,6.985; H4 -12.065,6.985; H5 -10.795,6.985; H6 -9.525,6.985; H7 -8.255,6.985; H8 -6.985,6.985; H9 -5.715,6.985; H10 -4.445,6.985; H11 -3.175,6.985; H12 -1.905,6.985; H13 -0.635,6.985; H14 0.635,6.985; H15 1.905,6.985; H16 3.175,6.985; H17 4.445,6.985; H18 5.715,6.985; H19 6.985,6.985; H20 8.255,6.985; H21 9.525,6.985; H22 10.795,6.985; H23 12.065,6.985; H24 13.335,6.985; H25 14.605,6.985; H26 15.875,6.985; J1 -15.875,5.715; J2 -14.605,5.715; J3 -13.335,5.715; J4 -12.065,5.715; J5 -10.795,5.715; J6 -9.525,5.715; J7 -8.255,5.715; J8 -6.985,5.715; J9 -5.715,5.715; J10 -4.445,5.715; J11 -3.175,5.715; J12 -1.905,5.715; J13 -0.635,5.715; J14 0.635,5.715; J15 1.905,5.715; J16 3.175,5.715; J17 4.445,5.715; J18 5.715,5.715; J19 6.985,5.715; J20 8.255,5.715; J21 9.525,5.715; J22 10.795,5.715; J23 12.065,5.715; J24 13.335,5.715; J25 14.605,5.715; J26 15.875,5.715; K1 -15.875,4.445; K2 -14.605,4.445; K3 -13.335,4.445; K4 -12.065,4.445; K5 -10.795,4.445; K6 -9.525,4.445; K7 -8.255,4.445; K8 -6.985,4.445; K9 -5.715,4.445; K10 -4.445,4.445; K11 -3.175,4.445; K12 -1.905,4.445; K13 -0.635,4.445; K14 0.635,4.445; K15 1.905,4.445; K16 3.175,4.445; K17 4.445,4.445; K18 5.715,4.445; K19 6.985,4.445; K20 8.255,4.445; K21 9.525,4.445; K22 10.795,4.445; K23 12.065,4.445; K24 13.335,4.445; K25 14.605,4.445; K26 15.875,4.445; L1 -15.875,3.175; L2 -14.605,3.175; L3 -13.335,3.175; L4 -12.065,3.175; L5 -10.795,3.175; L6 -9.525,3.175; L7 -8.255,3.175; L8 -6.985,3.175; L9 -5.715,3.175; L10 -4.445,3.175; L11 -3.175,3.175; L12 -1.905,3.175; L13 -0.635,3.175; L14 0.635,3.175; L15 1.905,3.175; L16 3.175,3.175; L17 4.445,3.175; L18 5.715,3.175; L19 6.985,3.175; L20 8.255,3.175; L21 9.525,3.175; L22 10.795,3.175; L23 12.065,3.175; L24 13.335,3.175; L25 14.605,3.175; L26 15.875,3.175; M1 -15.875,1.905; M2 -14.605,1.905; M3 -13.335,1.905; M4 -12.065,1.905; M5 -10.795,1.905; M6 -9.525,1.905; M7 -8.255,1.905; M8 -6.985,1.905; M9 -5.715,1.905; M10 -4.445,1.905; M11 -3.175,1.905; M12 -1.905,1.905; M13 -0.635,1.905; M14 0.635,1.905; M15 1.905,1.905; M16 3.175,1.905; M17 4.445,1.905; M18 5.715,1.905; M19 6.985,1.905; M20 8.255,1.905; M21 9.525,1.905; M22 10.795,1.905; M23 12.065,1.905; M24 13.335,1.905; M25 14.605,1.905; M26 15.875,1.905; N1 -15.875,0.635; N2 -14.605,0.635; N3 -13.335,0.635; N4 -12.065,0.635; N5 -10.795,0.635; N6 -9.525,0.635; N7 -8.255,0.635; N8 -6.985,0.635; N9 -5.715,0.635; N10 -4.445,0.635; N11 -3.175,0.635; N12 -1.905,0.635; N13 -0.635,0.635; N14 0.635,0.635; N15 1.905,0.635; N16 3.175,0.635; N17 4.445,0.635; N18 5.715,0.635; N19 6.985,0.635; N20 8.255,0.635; N21 9.525,0.635; N22 10.795,0.635; N23 12.065,0.635; N24 13.335,0.635; N25 14.605,0.635; N26 15.875,0.635; P1 -15.875,-0.635; P2 -14.605,-0.635; P3 -13.335,-0.635; P4 -12.065,-0.635; P5 -10.795,-0.635; P6 -9.525,-0.635; P7 -8.255,-0.635; P8 -6.985,-0.635; P9 -5.715,-0.635; P10 -4.445,-0.635; P11 -3.175,-0.635; P12 -1.905,-0.635; P13 -0.635,-0.635; P14 0.635,-0.635; P15 1.905,-0.635; P16 3.175,-0.635; P17 4.445,-0.635; P18 5.715,-0.635; P19 6.985,-0.635; P20 8.255,-0.635; P21 9.525,-0.635; P22 10.795,-0.635; P23 12.065,-0.635; P24 13.335,-0.635; P25 14.605,-0.635; P26 15.875,-0.635; R1 -15.875,-1.905; R2 -14.605,-1.905; R3 -13.335,-1.905; R4 -12.065,-1.905; R5 -10.795,-1.905; R6 -9.525,-1.905; R7 -8.255,-1.905; R8 -6.985,-1.905; R9 -5.715,-1.905; R10 -4.445,-1.905; R11 -3.175,-1.905; R12 -1.905,-1.905; R13 -0.635,-1.905; R14 0.635,-1.905; R15 1.905,-1.905; R16 3.175,-1.905; R17 4.445,-1.905; R18 5.715,-1.905; R19 6.985,-1.905; R20 8.255,-1.905; R21 9.525,-1.905; R22 10.795,-1.905; R23 12.065,-1.905; R24 13.335,-1.905; R25 14.605,-1.905; R26 15.875,-1.905; T1 -15.875,-3.175; T2 -14.605,-3.175; T3 -13.335,-3.175; T4 -12.065,-3.175; T5 -10.795,-3.175; T6 -9.525,-3.175; T7 -8.255,-3.175; T8 -6.985,-3.175; T9 -5.715,-3.175; T10 -4.445,-3.175; T11 -3.175,-3.175; T12 -1.905,-3.175; T13 -0.635,-3.175; T14 0.635,-3.175; T15 1.905,-3.175; T16 3.175,-3.175; T17 4.445,-3.175; T18 5.715,-3.175; T19 6.985,-3.175; T20 8.255,-3.175; T21 9.525,-3.175; T22 10.795,-3.175; T23 12.065,-3.175; T24 13.335,-3.175; T25 14.605,-3.175; T26 15.875,-3.175; U1 -15.875,-4.445; U2 -14.605,-4.445; U3 -13.335,-4.445; U4 -12.065,-4.445; U5 -10.795,-4.445; U6 -9.525,-4.445; U7 -8.255,-4.445; U8 -6.985,-4.445; U9 -5.715,-4.445; U10 -4.445,-4.445; U11 -3.175,-4.445; U12 -1.905,-4.445; U13 -0.635,-4.445; U14 0.635,-4.445; U15 1.905,-4.445; U16 3.175,-4.445; U17 4.445,-4.445; U18 5.715,-4.445; U19 6.985,-4.445; U20 8.255,-4.445; U21 9.525,-4.445; U22 10.795,-4.445; U23 12.065,-4.445; U24 13.335,-4.445; U25 14.605,-4.445; U26 15.875,-4.445; V1 -15.875,-5.715; V2 -14.605,-5.715; V3 -13.335,-5.715; V4 -12.065,-5.715; V5 -10.795,-5.715; V6 -9.525,-5.715; V7 -8.255,-5.715; V8 -6.985,-5.715; V9 -5.715,-5.715; V10 -4.445,-5.715; V11 -3.175,-5.715; V12 -1.905,-5.715; V13 -0.635,-5.715; V14 0.635,-5.715; V15 1.905,-5.715; V16 3.175,-5.715; V17 4.445,-5.715; V18 5.715,-5.715; V19 6.985,-5.715; V20 8.255,-5.715; V21 9.525,-5.715; V22 10.795,-5.715; V23 12.065,-5.715; V24 13.335,-5.715; V25 14.605,-5.715; V26 15.875,-5.715; W1 -15.875,-6.985; W2 -14.605,-6.985; W3 -13.335,-6.985; W4 -12.065,-6.985; W5 -10.795,-6.985; W6 -9.525,-6.985; W7 -8.255,-6.985; W8 -6.985,-6.985; W9 -5.715,-6.985; W10 -4.445,-6.985; W11 -3.175,-6.985; W12 -1.905,-6.985; W13 -0.635,-6.985; W14 0.635,-6.985; W15 1.905,-6.985; W16 3.175,-6.985; W17 4.445,-6.985; W18 5.715,-6.985; W19 6.985,-6.985; W20 8.255,-6.985; W21 9.525,-6.985; W22 10.795,-6.985; W23 12.065,-6.985; W24 13.335,-6.985; W25 14.605,-6.985; W26 15.875,-6.985; Y1 -15.875,-8.255; Y2 -14.605,-8.255; Y3 -13.335,-8.255; Y4 -12.065,-8.255; Y5 -10.795,-8.255; Y6 -9.525,-8.255; Y7 -8.255,-8.255; Y8 -6.985,-8.255; Y9 -5.715,-8.255; Y10 -4.445,-8.255; Y11 -3.175,-8.255; Y12 -1.905,-8.255; Y13 -0.635,-8.255; Y14 0.635,-8.255; Y15 1.905,-8.255; Y16 3.175,-8.255; Y17 4.445,-8.255; Y18 5.715,-8.255; Y19 6.985,-8.255; Y20 8.255,-8.255; Y21 9.525,-8.255; Y22 10.795,-8.255; Y23 12.065,-8.255; Y24 13.335,-8.255; Y25 14.605,-8.255; Y26 15.875,-8.255